# Altium footprint library QFN.PcbLib: 32 footprints (part 2 of 2)
Each footprint in its own frame and in the unit in brackets; x right, y up, seen from the top. Pads: shape width x height; smd on the part's side, far side on the other; paste and mask are expansions set on the pad; w line width, h text height; cw(c..) or ccw(c..) is an arc to the next point about the centre after c.
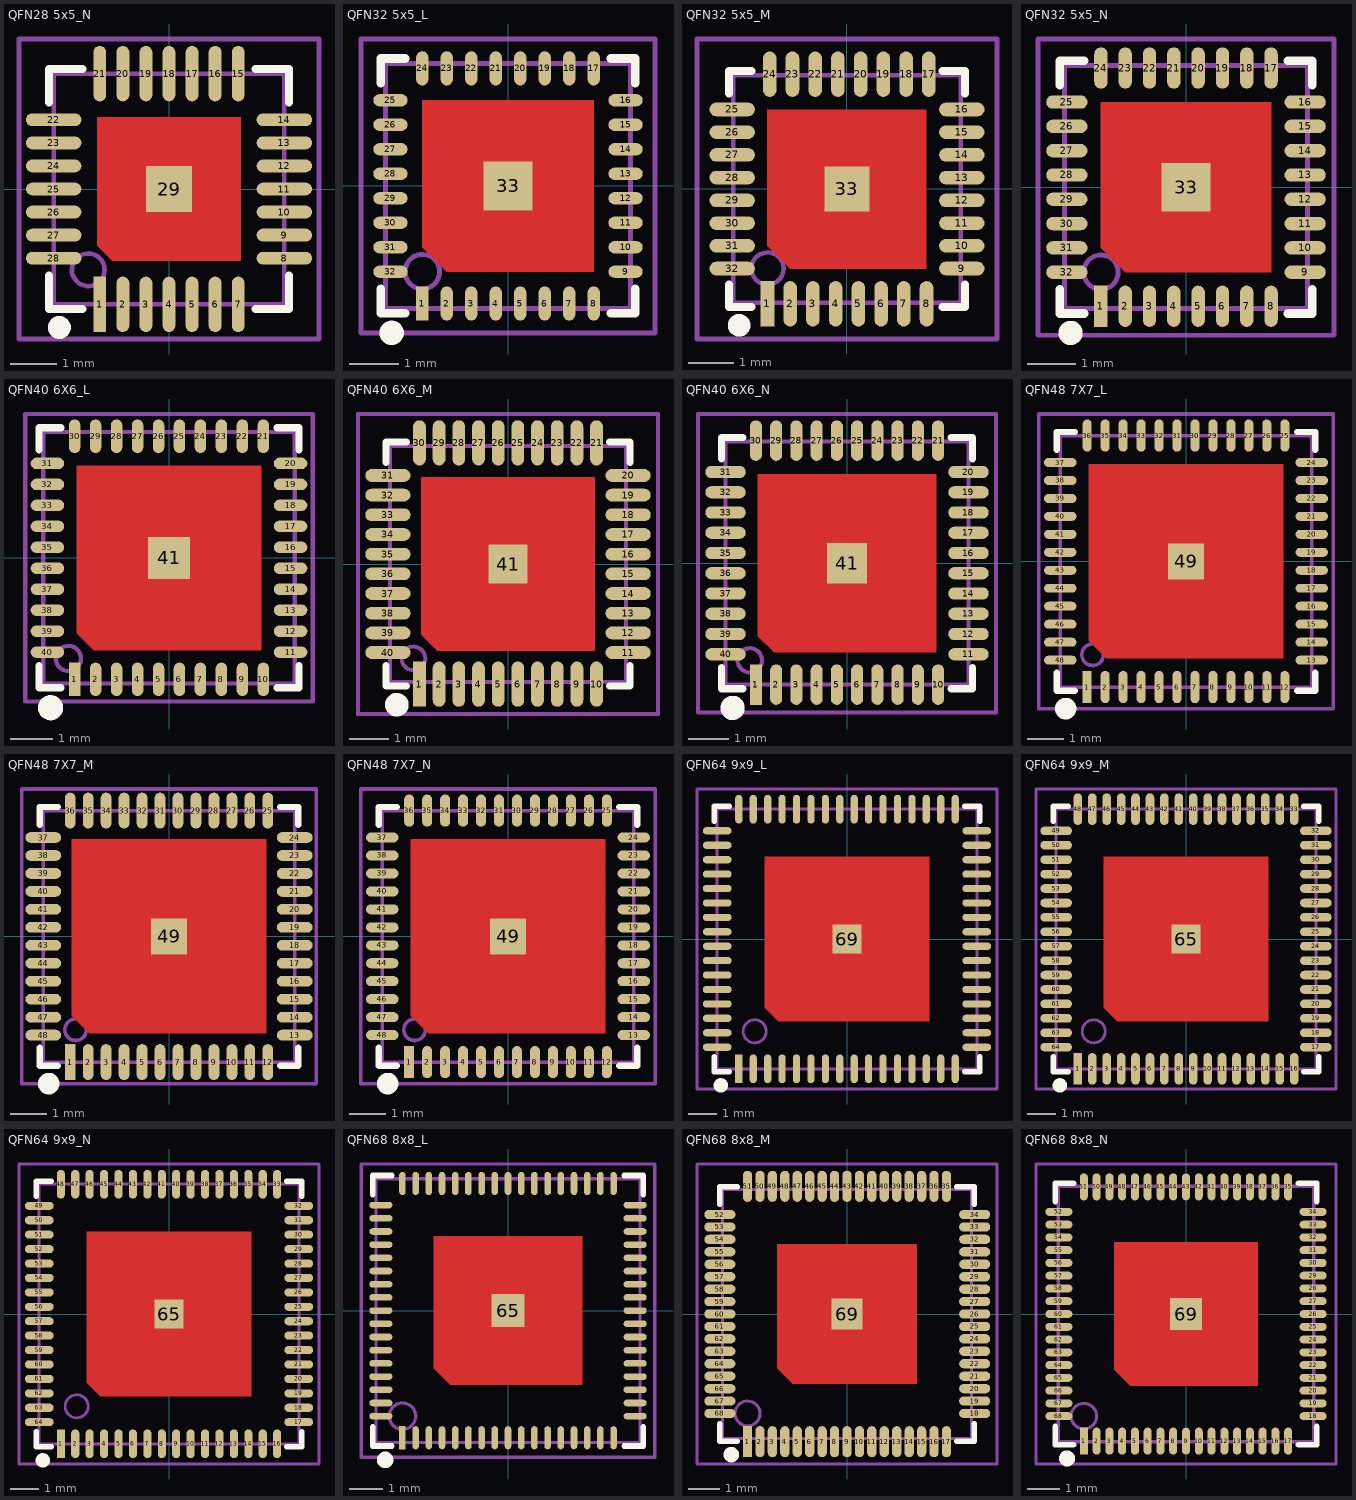
[diagram p1: the footprints below, top view; thin cyan lines are the x and y axes]

## QFN28 5x5_N [mm] "28脚，长x宽x高：5x5x0.8mm，脚距：0.5mm"
pads (29):
  rect 0.28x1.2 smd: 1(-1.5,-2.5)
  oval 0.28x1.2 smd: 2(-1,-2.5) 3(-0.5,-2.5) 4(0,-2.5) 5(0.5,-2.5) 6(1,-2.5) 7(1.5,-2.5) 15(1.5,2.5) 16(1,2.5) 17(0.5,2.5) 18(0,2.5) 19(-0.5,2.5) 20(-1,2.5) 21(-1.5,2.5)
  oval 1.2x0.28 smd: 8(2.5,-1.5) 9(2.5,-1) 10(2.5,-0.5) 11(2.5,0) 12(2.5,0.5) 13(2.5,1) 14(2.5,1.5) 22(-2.5,1.5) 23(-2.5,1) 24(-2.5,0.5) 25(-2.5,0) 26(-2.5,-0.5) 27(-2.5,-1) 28(-2.5,-1.5)
  rect 1x1 smd: 29(0,0)
Top Layer:
  region: -1.55,1.55 1.55,1.55 1.55,-1.55 -1.225,-1.55 -1.55,-1.225
Top Overlay:
  circle w0.25: c-2.375,-3 r0.125
  lines w0.178: -2.6,-1.875 -2.6,-2.6 -1.875,-2.6 ; -2.6,1.875 -2.6,2.6 -1.875,2.6 ; 1.875,-2.6 2.6,-2.6 2.6,-1.875 ; 1.875,2.6 2.6,2.6 2.6,1.875
Mechanical 13:
  circle w0.1: c-1.75,-1.75 r0.354
  lines w0.1: -2.501,-2.501 -2.501,2.501 2.5,2.501 2.5,-2.501 -2.501,-2.501
Mechanical 15:
  circle w0.05: c0,0 r0.35
  lines w0.05: -0.5,0 0.5,0 ; 0,-0.5 0,0.5
  lines w0.1: -3.25,-3.25 3.25,-3.25 3.25,3.25 -3.25,3.25 -3.25,-3.25
3D body "QFN28-5X5.STEP": height 0.75, standoff -0.05, extent -2.51,-2.51 2.51,2.51

## QFN32 5x5_L [mm] "32脚，长x宽x高：5x5x0.95mm，脚距：0.5mm"
pads (33):
  rect 0.25x0.7 smd: 1(-1.751,-2.4)
  oval 0.25x0.7 smd: 2(-1.25,-2.4) 3(-0.75,-2.4) 4(-0.25,-2.4) 5(0.25,-2.4) 6(0.75,-2.4) 7(1.25,-2.4) 8(1.75,-2.4) 17(1.75,2.4) 18(1.25,2.4) 19(0.75,2.4) 20(0.25,2.4) 21(-0.25,2.4) 22(-0.75,2.4) 23(-1.25,2.4) 24(-1.75,2.4)
  oval 0.7x0.25 smd: 9(2.4,-1.75) 10(2.4,-1.25) 11(2.4,-0.75) 12(2.4,-0.25) 13(2.4,0.25) 14(2.4,0.75) 15(2.4,1.25) 16(2.4,1.75) 25(-2.4,1.75) 26(-2.4,1.25) 27(-2.4,0.75) 28(-2.4,0.25) 29(-2.4,-0.25) 30(-2.4,-0.75) 31(-2.4,-1.25) 32(-2.4,-1.75)
  rect 1x1 smd: 33(0,0)
Top Layer:
  region: -1.75,1.75 1.75,1.75 1.75,-1.75 -1.25,-1.75 -1.75,-1.25
Top Overlay:
  circle w0.25: c-2.375,-3 r0.125
  lines w0.178: -2.6,-2.1 -2.6,-2.6 -2.1,-2.6 ; -2.6,2.1 -2.6,2.6 -2.1,2.6 ; 2.1,-2.6 2.6,-2.6 2.6,-2.1 ; 2.1,2.6 2.6,2.6 2.6,2.1
Mechanical 13:
  circle w0.1: c-1.75,-1.75 r0.354
  lines w0.1: -2.501,-2.501 2.501,-2.501 2.5,2.501 -2.501,2.501 -2.501,-2.501
Mechanical 15:
  circle w0.05: c0,0 r0.35
  lines w0.05: -0.5,0 0.5,0 ; 0,-0.5 0,0.5
  lines w0.1: -3,-3 -3,3 3,3 3,-3 -3,-3
3D body "QFN32 5x5.STEP": height 0.93, standoff 0, extent -2.501,-2.501 2.501,2.501

## QFN32 5x5_M [mm] "32脚，长x宽x高：5x5x0.95mm，脚距：0.5mm"
pads (33):
  rect 0.3x1 smd: 1(-1.751,-2.528)
  oval 0.3x1 smd: 2(-1.25,-2.528) 3(-0.75,-2.528) 4(-0.25,-2.528) 5(0.25,-2.528) 6(0.75,-2.528) 7(1.25,-2.528) 8(1.75,-2.528) 17(1.8,2.528) 18(1.3,2.528) 19(0.8,2.528) 20(0.3,2.528) 21(-0.2,2.528) 22(-0.7,2.528) 23(-1.2,2.528) 24(-1.7,2.528)
  oval 1x0.3 smd: 9(2.528,-1.75) 10(2.528,-1.25) 11(2.528,-0.75) 12(2.528,-0.25) 13(2.528,0.25) 14(2.528,0.75) 15(2.528,1.25) 16(2.528,1.75) 25(-2.528,1.75) 26(-2.528,1.25) 27(-2.528,0.75) 28(-2.528,0.25) 29(-2.528,-0.25) 30(-2.528,-0.75) 31(-2.528,-1.25) 32(-2.528,-1.75)
  rect 1x1 smd: 33(0,0)
Top Layer:
  region: -1.75,1.75 1.75,1.75 1.75,-1.75 -1.25,-1.75 -1.75,-1.25
Top Overlay:
  circle w0.25: c-2.375,-3 r0.125
  lines w0.178: -2.6,-2.1 -2.6,-2.6 -2.1,-2.6 ; -2.6,2.1 -2.6,2.6 -2.1,2.6 ; 2.1,-2.6 2.6,-2.6 2.6,-2.1 ; 2.1,2.6 2.6,2.6 2.6,2.1
Mechanical 13:
  circle w0.1: c-1.75,-1.75 r0.354
  lines w0.1: 2.501,-2.501 -2.501,-2.501 -2.501,2.501 2.5,2.501 2.5,-2.501 ; 2.5,-2.501 2.501,-2.501
Mechanical 15:
  circle w0.05: c0,0 r0.35
  lines w0.05: -0.5,0 0.5,0 ; 0,-0.5 0,0.5
  lines w0.1: -3.302,-3.302 3.302,-3.302 3.302,3.302 -3.302,3.302 -3.302,-3.302
3D body "QFN32 5x5.STEP": height 0.93, standoff 0, extent -2.501,-2.501 2.501,2.501

## QFN32 5x5_N [mm] "32脚，长x宽x高：5x5x0.95mm，脚距：0.5mm"
pads (33):
  rect 0.275x0.85 smd: 1(-1.751,-2.451)
  oval 0.275x0.85 smd: 2(-1.25,-2.451) 3(-0.75,-2.451) 4(-0.25,-2.451) 5(0.25,-2.451) 6(0.75,-2.451) 7(1.25,-2.451) 8(1.75,-2.451) 17(1.75,2.451) 18(1.25,2.451) 19(0.75,2.451) 20(0.25,2.451) 21(-0.25,2.451) 22(-0.75,2.451) 23(-1.25,2.451) 24(-1.75,2.451)
  oval 0.85x0.275 smd: 9(2.451,-1.75) 10(2.451,-1.25) 11(2.451,-0.75) 12(2.451,-0.25) 13(2.451,0.25) 14(2.451,0.75) 15(2.451,1.25) 16(2.451,1.75) 25(-2.451,1.75) 26(-2.451,1.25) 27(-2.451,0.75) 28(-2.451,0.25) 29(-2.451,-0.25) 30(-2.451,-0.75) 31(-2.451,-1.25) 32(-2.451,-1.75)
  rect 1x1 smd: 33(0,0)
Top Layer:
  region: -1.75,1.75 1.75,1.75 1.75,-1.75 -1.25,-1.75 -1.75,-1.25
Top Overlay:
  circle w0.25: c-2.375,-3 r0.125
  lines w0.178: -2.6,-2.1 -2.6,-2.6 -2.1,-2.6 ; -2.6,2.1 -2.6,2.6 -2.1,2.6 ; 2.1,-2.6 2.6,-2.6 2.6,-2.1 ; 2.1,2.6 2.6,2.6 2.6,2.1
Mechanical 13:
  circle w0.1: c-1.75,-1.75 r0.354
  lines w0.1: 2.5,-2.501 2.5,2.501 -2.501,2.501 -2.501,-2.501 2.501,-2.501 ; 2.5,-2.501 2.501,-2.501
Mechanical 15:
  circle w0.05: c0,0 r0.35
  lines w0.05: -0.5,0 0.5,0 ; 0,-0.5 0,0.5
  lines w0.1: -3.048,-3.048 -3.048,3.048 3.048,3.048 3.048,-3.048 -3.048,-3.048
3D body "QFN32 5x5.STEP": height 0.93, standoff 0, extent -2.501,-2.501 2.501,2.501

## QFN40 6X6_L [mm] "40脚，长x宽x高：6x6x1mm，脚距：0.5mm"
pads (41):
  rect 0.275x0.8 smd mask+0.051: 1(-2.25,-2.898)
  oval 0.275x0.8 smd mask+0.051: 2(-1.75,-2.898) 3(-1.25,-2.898) 4(-0.75,-2.898) 5(-0.25,-2.898) 6(0.25,-2.898) 7(0.75,-2.898) 8(1.25,-2.898) 9(1.75,-2.898) 10(2.25,-2.898) 21(2.25,2.898) 22(1.75,2.898) 23(1.25,2.898) 24(0.75,2.898) 25(0.25,2.898) 26(-0.25,2.898) 27(-0.75,2.898) 28(-1.25,2.898) 29(-1.75,2.898) 30(-2.25,2.898)
  oval 0.8x0.275 smd mask+0.051: 11(2.898,-2.25) 12(2.898,-1.75) 13(2.898,-1.25) 14(2.898,-0.75) 15(2.898,-0.25) 16(2.898,0.25) 17(2.898,0.75) 18(2.898,1.25) 19(2.898,1.75) 20(2.898,2.25) 31(-2.898,2.25) 32(-2.898,1.75) 33(-2.898,1.25) 34(-2.898,0.75) 35(-2.898,0.25) 36(-2.898,-0.25) 37(-2.898,-0.75) 38(-2.898,-1.25) 39(-2.898,-1.75) 40(-2.898,-2.25)
  rect 1x1 smd mask+0.051: 41(0,0)
Top Layer:
  region: -2.2,2.2 2.2,2.2 2.2,-2.2 -1.8,-2.2 -2.2,-1.8
Top Overlay:
  circle w0.3: c-2.825,-3.575 r0.15
  lines w0.178: -3.1,-2.575 -3.1,-3.1 -2.575,-3.1 ; -3.1,2.575 -3.1,3.1 -2.575,3.1 ; 2.575,-3.1 3.1,-3.1 3.1,-2.575 ; 2.575,3.1 3.1,3.1 3.1,2.575
Mechanical 13:
  circle w0.1: c-2.4,-2.4 r0.3
  lines w0.1: -3,-3 3,-3 3,3 -3,3 -3,-3
Mechanical 15:
  circle w0.05: c0,0 r0.35
  lines w0.05: -0.5,0 0.5,0 ; 0,-0.5 0,0.5
  lines w0.1: -3.429,-3.429 3.429,-3.429 3.429,3.429 -3.429,3.429 -3.429,-3.429
3D body "QFN40-6X6.STEP": height 0.95, standoff -0.02, extent -3.01,-3.01 3.01,3.01

## QFN40 6X6_M [mm] "40脚，长x宽x高：6x6x1mm，脚距：0.5mm"
pads (41):
  rect 0.325x1.15 smd mask+0.051: 1(-2.25,-3.051)
  oval 0.325x1.15 smd mask+0.051: 2(-1.75,-3.051) 3(-1.25,-3.051) 4(-0.75,-3.051) 5(-0.25,-3.051) 6(0.25,-3.051) 7(0.75,-3.051) 8(1.25,-3.051) 9(1.75,-3.051) 10(2.25,-3.051) 21(2.25,3.076) 22(1.75,3.076) 23(1.25,3.076) 24(0.75,3.076) 25(0.25,3.076) 26(-0.25,3.076) 27(-0.75,3.076) 28(-1.25,3.076) 29(-1.75,3.076) 30(-2.25,3.076)
  oval 1.15x0.325 smd mask+0.051: 11(3.051,-2.25) 12(3.051,-1.75) 13(3.051,-1.25) 14(3.051,-0.75) 15(3.051,-0.25) 16(3.051,0.25) 17(3.051,0.75) 18(3.051,1.25) 19(3.051,1.75) 20(3.051,2.25) 31(-3.051,2.25) 32(-3.051,1.75) 33(-3.051,1.25) 34(-3.051,0.75) 35(-3.051,0.25) 36(-3.051,-0.25) 37(-3.051,-0.75) 38(-3.051,-1.25) 39(-3.051,-1.75) 40(-3.051,-2.25)
  rect 1x1 smd mask+0.051: 41(0,0)
Top Layer:
  region: -2.2,2.2 2.2,2.2 2.2,-2.2 -1.8,-2.2 -2.2,-1.8
Top Overlay:
  circle w0.3: c-2.825,-3.575 r0.15
  lines w0.178: -3.1,-2.575 -3.1,-3.1 -2.575,-3.1 ; -3.1,2.575 -3.1,3.1 -2.575,3.1 ; 2.575,-3.1 3.1,-3.1 3.1,-2.575 ; 2.575,3.1 3.1,3.1 3.1,2.575
Mechanical 13:
  circle w0.1: c-2.4,-2.4 r0.3
  lines w0.1: -3,-3 -3,3 3,3 3,-3 -3,-3
Mechanical 15:
  circle w0.05: c0,0 r0.35
  lines w0.05: -0.5,0 0.5,0 ; 0,-0.5 0,0.5
  lines w0.1: -3.81,-3.81 3.81,-3.81 3.81,3.81 -3.81,3.81 -3.81,-3.81
3D body "QFN40-6X6.STEP": height 0.9, standoff -0.07, extent -3.01,-3.01 3.01,3.01

## QFN40 6X6_N [mm] "40脚，长x宽x高：6x6x1mm，脚距：0.5mm"
pads (41):
  rect 0.3x1 smd mask+0.051: 1(-2.25,-3)
  oval 0.3x1 smd mask+0.051: 2(-1.75,-3) 3(-1.25,-3) 4(-0.75,-3) 5(-0.25,-3) 6(0.25,-3) 7(0.75,-3) 8(1.25,-3) 9(1.75,-3) 10(2.25,-3) 21(2.25,3.025) 22(1.75,3.025) 23(1.25,3.025) 24(0.75,3.025) 25(0.25,3.025) 26(-0.25,3.025) 27(-0.75,3.025) 28(-1.25,3.025) 29(-1.75,3.025) 30(-2.25,3.025)
  oval 1x0.3 smd mask+0.051: 11(3,-2.25) 12(3,-1.75) 13(3,-1.25) 14(3,-0.75) 15(3,-0.25) 16(3,0.25) 17(3,0.75) 18(3,1.25) 19(3,1.75) 20(3,2.25) 31(-3,2.25) 32(-3,1.75) 33(-3,1.25) 34(-3,0.75) 35(-3,0.25) 36(-3,-0.25) 37(-3,-0.75) 38(-3,-1.25) 39(-3,-1.75) 40(-3,-2.25)
  rect 1x1 smd mask+0.051: 41(0,0)
Top Layer:
  region: -2.2,2.2 2.2,2.2 2.2,-2.2 -1.8,-2.2 -2.2,-1.8
Top Overlay:
  circle w0.3: c-2.825,-3.575 r0.15
  lines w0.178: -3.1,-2.575 -3.1,-3.1 -2.575,-3.1 ; -3.1,2.575 -3.1,3.1 -2.575,3.1 ; 2.575,-3.1 3.1,-3.1 3.1,-2.575 ; 2.575,3.1 3.1,3.1 3.1,2.575
Mechanical 13:
  circle w0.1: c-2.4,-2.4 r0.3
  lines w0.1: -3,-3 3,-3 3,3 -3,3 -3,-3
Mechanical 15:
  circle w0.05: c0,0 r0.35
  lines w0.05: -0.5,0 0.5,0 ; 0,-0.5 0,0.5
  lines w0.1: -3.683,-3.683 3.683,-3.683 3.683,3.683 -3.683,3.683 -3.683,-3.683
3D body "QFN40-6X6.STEP": height 0.95, standoff -0.02, extent -3.01,-3.01 3.01,3.01

## QFN48 7X7_L [mm] "48脚，长x宽x高：7x7x1mm，脚距：0.5mm"
pads (49):
  rect 0.25x0.9 smd: 1(-2.75,-3.5)
  oval 0.25x0.9 smd: 2(-2.25,-3.5) 3(-1.75,-3.5) 4(-1.25,-3.5) 5(-0.75,-3.5) 6(-0.25,-3.5) 7(0.25,-3.5) 8(0.75,-3.5) 9(1.25,-3.5) 10(1.75,-3.5) 11(2.25,-3.5) 12(2.75,-3.5) 25(2.75,3.5) 26(2.25,3.5) 27(1.75,3.5) 28(1.25,3.5) 29(0.75,3.5) 30(0.25,3.5) 31(-0.25,3.5) 32(-0.75,3.5) 33(-1.25,3.5) 34(-1.75,3.5) 35(-2.25,3.5) 36(-2.75,3.5)
  oval 0.9x0.25 smd: 13(3.5,-2.75) 14(3.5,-2.25) 15(3.5,-1.75) 16(3.5,-1.25) 17(3.5,-0.75) 18(3.5,-0.25) 19(3.5,0.25) 20(3.5,0.75) 21(3.5,1.25) 22(3.5,1.75) 23(3.5,2.25) 24(3.5,2.75) 37(-3.5,2.75) 38(-3.5,2.25) 39(-3.5,1.75) 40(-3.5,1.25) 41(-3.5,0.75) 42(-3.5,0.25) 43(-3.5,-0.25) 44(-3.5,-0.75) 45(-3.5,-1.25) 46(-3.5,-1.75) 47(-3.5,-2.25) 48(-3.5,-2.75)
  rect 1x1 smd mask+0.051: 49(0,0)
Top Layer:
  region: -2.7,2.7 2.7,2.7 2.7,-2.7 -2.214,-2.7 -2.7,-2.214
Top Overlay:
  circle w0.3: c-3.35,-4.1 r0.15
  lines w0.178: -3.6,-3.1 -3.6,-3.6 -3.1,-3.6 ; -3.6,3.1 -3.6,3.6 -3.1,3.6 ; 3.1,-3.6 3.6,-3.6 3.6,-3.1 ; 3.1,3.6 3.6,3.6 3.6,3.1
Mechanical 13:
  circle w0.1: c-2.6,-2.6 r0.3
  lines w0.1: -3.5,-3.5 3.5,-3.5 3.5,3.5 -3.5,3.5 -3.5,-3.5
Mechanical 15:
  circle w0.05: c0,0 r0.35
  lines w0.05: -0.5,0 0.5,0 ; 0,-0.5 0,0.5
  lines w0.1: -4.1,-4.1 -4.1,4.1 4.1,4.1 4.1,-4.1 -4.1,-4.1
3D body "QFN48-7X7.STEP": height 0.95, standoff -0.05, extent -3.51,-3.51 3.51,3.51

## QFN48 7X7_M [mm] "48脚，长x宽x高：7x7x1mm，脚距：0.5mm"
pads (49):
  rect 0.3x1 smd: 1(-2.75,-3.5)
  oval 0.3x1 smd: 2(-2.25,-3.5) 3(-1.75,-3.5) 4(-1.25,-3.5) 5(-0.75,-3.5) 6(-0.25,-3.5) 7(0.25,-3.5) 8(0.75,-3.5) 9(1.25,-3.5) 10(1.75,-3.5) 11(2.25,-3.5) 12(2.75,-3.5) 25(2.75,3.5) 26(2.25,3.5) 27(1.75,3.5) 28(1.25,3.5) 29(0.75,3.5) 30(0.25,3.5) 31(-0.25,3.5) 32(-0.75,3.5) 33(-1.25,3.5) 34(-1.75,3.5) 35(-2.25,3.5) 36(-2.75,3.5)
  oval 1x0.3 smd: 13(3.5,-2.75) 14(3.5,-2.25) 15(3.5,-1.75) 16(3.5,-1.25) 17(3.5,-0.75) 18(3.5,-0.25) 19(3.5,0.25) 20(3.5,0.75) 21(3.5,1.25) 22(3.5,1.75) 23(3.5,2.25) 24(3.5,2.75) 37(-3.5,2.75) 38(-3.5,2.25) 39(-3.5,1.75) 40(-3.5,1.25) 41(-3.5,0.75) 42(-3.5,0.25) 43(-3.5,-0.25) 44(-3.5,-0.75) 45(-3.5,-1.25) 46(-3.5,-1.75) 47(-3.5,-2.25) 48(-3.5,-2.75)
  rect 1x1 smd mask+0.051: 49(0,0)
Top Layer:
  region: -2.7,2.7 2.7,2.7 2.7,-2.7 -2.214,-2.7 -2.7,-2.214
Top Overlay:
  circle w0.3: c-3.35,-4.1 r0.15
  lines w0.178: -3.6,-3.1 -3.6,-3.6 -3.1,-3.6 ; -3.6,3.1 -3.6,3.6 -3.1,3.6 ; 3.1,-3.6 3.6,-3.6 3.6,-3.1 ; 3.1,3.6 3.6,3.6 3.6,3.1
Mechanical 13:
  circle w0.1: c-2.6,-2.6 r0.3
  lines w0.1: -3.5,-3.5 3.5,-3.5 3.5,3.5 -3.5,3.5 -3.5,-3.5
Mechanical 15:
  circle w0.05: c0,0 r0.35
  lines w0.05: -0.5,0 0.5,0 ; 0,-0.5 0,0.5
  lines w0.1: -4.1,-4.1 -4.1,4.1 4.1,4.1 4.1,-4.1 -4.1,-4.1
3D body "QFN48-7X7.STEP": height 0.95, standoff -0.05, extent -3.51,-3.51 3.51,3.51

## QFN48 7X7_N [mm] "48脚，长x宽x高：7x7x1mm，脚距：0.5mm"
pads (49):
  rect 0.28x0.9 smd: 1(-2.75,-3.5)
  oval 0.28x0.9 smd: 2(-2.25,-3.5) 3(-1.75,-3.5) 4(-1.25,-3.5) 5(-0.75,-3.5) 6(-0.25,-3.5) 7(0.25,-3.5) 8(0.75,-3.5) 9(1.25,-3.5) 10(1.75,-3.5) 11(2.25,-3.5) 12(2.75,-3.5) 25(2.75,3.5) 26(2.25,3.5) 27(1.75,3.5) 28(1.25,3.5) 29(0.75,3.5) 30(0.25,3.5) 31(-0.25,3.5) 32(-0.75,3.5) 33(-1.25,3.5) 34(-1.75,3.5) 35(-2.25,3.5) 36(-2.75,3.5)
  oval 0.9x0.28 smd: 13(3.5,-2.75) 14(3.5,-2.25) 15(3.5,-1.75) 16(3.5,-1.25) 17(3.5,-0.75) 18(3.5,-0.25) 19(3.5,0.25) 20(3.5,0.75) 21(3.5,1.25) 22(3.5,1.75) 23(3.5,2.25) 24(3.5,2.75) 37(-3.5,2.75) 38(-3.5,2.25) 39(-3.5,1.75) 40(-3.5,1.25) 41(-3.5,0.75) 42(-3.5,0.25) 43(-3.5,-0.25) 44(-3.5,-0.75) 45(-3.5,-1.25) 46(-3.5,-1.75) 47(-3.5,-2.25) 48(-3.5,-2.75)
  rect 1x1 smd mask+0.051: 49(0,0)
Top Layer:
  region: -2.7,2.7 2.7,2.7 2.7,-2.7 -2.214,-2.7 -2.7,-2.214
Top Overlay:
  circle w0.3: c-3.35,-4.1 r0.15
  lines w0.178: -3.6,-3.1 -3.6,-3.6 -3.1,-3.6 ; -3.6,3.1 -3.6,3.6 -3.1,3.6 ; 3.1,-3.6 3.6,-3.6 3.6,-3.1 ; 3.1,3.6 3.6,3.6 3.6,3.1
Mechanical 13:
  circle w0.1: c-2.6,-2.6 r0.3
  lines w0.1: -3.5,-3.5 3.5,-3.5 3.5,3.5 -3.5,3.5 -3.5,-3.5
Mechanical 15:
  circle w0.05: c0,0 r0.35
  lines w0.05: -0.5,0 0.5,0 ; 0,-0.5 0,0.5
  lines w0.1: -4.1,-4.1 -4.1,4.1 4.1,4.1 4.1,-4.1 -4.1,-4.1
3D body "QFN48-7X7.STEP": height 0.95, standoff -0.05, extent -3.51,-3.51 3.51,3.51

## QFN64 9x9_L [mm] "64脚，长x宽x高：9x9x1mm，脚距：0.5mm"
pads (65):
  rect 0.25x1 smd: 1(-3.75,-4.5)
  oval 0.25x1 smd: 2(-3.25,-4.5) 3(-2.75,-4.5) 4(-2.25,-4.5) 5(-1.75,-4.5) 6(-1.25,-4.5) 7(-0.75,-4.5) 8(-0.25,-4.5) 9(0.25,-4.5) 10(0.75,-4.5) 11(1.25,-4.5) 12(1.75,-4.5) 13(2.25,-4.5) 14(2.75,-4.5) 15(3.25,-4.5) 16(3.75,-4.5) 33(3.75,4.5) 34(3.25,4.5) 35(2.75,4.5) 36(2.25,4.5) 37(1.75,4.5) 38(1.25,4.5) 39(0.75,4.5) 40(0.25,4.5) 41(-0.25,4.5) 42(-0.75,4.5) 43(-1.25,4.5) 44(-1.75,4.5) 45(-2.25,4.5) 46(-2.75,4.5) 47(-3.25,4.5) 48(-3.75,4.5)
  oval 1x0.25 smd: 17(4.5,-3.75) 18(4.5,-3.25) 19(4.5,-2.75) 20(4.5,-2.25) 21(4.5,-1.75) 22(4.5,-1.25) 23(4.5,-0.75) 24(4.5,-0.25) 25(4.5,0.25) 26(4.5,0.75) 27(4.5,1.25) 28(4.5,1.75) 29(4.5,2.25) 30(4.5,2.75) 31(4.5,3.25) 32(4.5,3.75) 49(-4.5,3.75) 50(-4.5,3.25) 51(-4.5,2.75) 52(-4.5,2.25) 53(-4.5,1.75) 54(-4.5,1.25) 55(-4.5,0.75) 56(-4.5,0.25) 57(-4.5,-0.25) 58(-4.5,-0.75) 59(-4.5,-1.25) 60(-4.5,-1.75) 61(-4.5,-2.25) 62(-4.5,-2.75) 63(-4.5,-3.25) 64(-4.5,-3.75)
  rect 1x1 smd: 69(0,0)
Top Layer:
  region: -2.85,2.85 2.85,2.85 2.85,-2.85 -2.375,-2.85 -2.85,-2.375
Top Overlay:
  circle w0.25: c-4.375,-5.075 r0.125
  lines w0.178: -4.6,-4.075 -4.6,-4.6 -4.075,-4.6 ; -4.6,4.075 -4.6,4.6 -4.075,4.6 ; 4.075,-4.6 4.6,-4.6 4.6,-4.075 ; 4.075,4.6 4.6,4.6 4.6,4.075
Mechanical 13:
  circle w0.1: c-3.2,-3.2 r0.4
  lines w0.1: -4.5,-4.5 4.5,-4.5 4.5,4.5 -4.5,4.5 -4.5,-4.5
Mechanical 15:
  circle w0.05: c0,0 r0.35
  lines w0.05: -0.5,0 0.5,0 ; 0,-0.5 0,0.5
  lines w0.1: -5.2,-5.2 5.2,-5.2 5.2,5.2 -5.2,5.2 -5.2,-5.2
3D body "QFN64-9X9.STEP": height 0.95, standoff -0.05, extent -4.51,-4.51 4.51,4.51

## QFN64 9x9_M [mm] "64脚，长x宽x高：9x9x1mm，脚距：0.5mm"
pads (65):
  rect 0.3x1.1 smd: 1(-3.75,-4.5)
  oval 0.3x1.1 smd: 2(-3.25,-4.5) 3(-2.75,-4.5) 4(-2.25,-4.5) 5(-1.75,-4.5) 6(-1.25,-4.5) 7(-0.75,-4.5) 8(-0.25,-4.5) 9(0.25,-4.5) 10(0.75,-4.5) 11(1.25,-4.5) 12(1.75,-4.5) 13(2.25,-4.5) 14(2.75,-4.5) 15(3.25,-4.5) 16(3.75,-4.5) 33(3.75,4.5) 34(3.25,4.5) 35(2.75,4.5) 36(2.25,4.5) 37(1.75,4.5) 38(1.25,4.5) 39(0.75,4.5) 40(0.25,4.5) 41(-0.25,4.5) 42(-0.75,4.5) 43(-1.25,4.5) 44(-1.75,4.5) 45(-2.25,4.5) 46(-2.75,4.5) 47(-3.25,4.5) 48(-3.75,4.5)
  oval 1.1x0.3 smd: 17(4.5,-3.75) 18(4.5,-3.25) 19(4.5,-2.75) 20(4.5,-2.25) 21(4.5,-1.75) 22(4.5,-1.25) 23(4.5,-0.75) 24(4.5,-0.25) 25(4.5,0.25) 26(4.5,0.75) 27(4.5,1.25) 28(4.5,1.75) 29(4.5,2.25) 30(4.5,2.75) 31(4.5,3.25) 32(4.5,3.75) 49(-4.5,3.75) 50(-4.5,3.25) 51(-4.5,2.75) 52(-4.5,2.25) 53(-4.5,1.75) 54(-4.5,1.25) 55(-4.5,0.75) 56(-4.5,0.25) 57(-4.5,-0.25) 58(-4.5,-0.75) 59(-4.5,-1.25) 60(-4.5,-1.75) 61(-4.5,-2.25) 62(-4.5,-2.75) 63(-4.5,-3.25) 64(-4.5,-3.75)
  rect 1x1 smd: 65(0,0)
Top Layer:
  region: -2.85,2.85 2.85,2.85 2.85,-2.85 -2.375,-2.85 -2.85,-2.375
Top Overlay:
  circle w0.25: c-4.375,-5.075 r0.125
  lines w0.178: -4.6,-4.075 -4.6,-4.6 -4.075,-4.6 ; -4.6,4.075 -4.6,4.6 -4.075,4.6 ; 4.075,-4.6 4.6,-4.6 4.6,-4.075 ; 4.075,4.6 4.6,4.6 4.6,4.075
Mechanical 13:
  circle w0.1: c-3.2,-3.2 r0.4
  lines w0.1: -4.5,-4.5 -4.5,4.5 4.5,4.5 4.5,-4.5 -4.5,-4.5
Mechanical 15:
  circle w0.05: c0,0 r0.35
  lines w0.05: -0.5,0 0.5,0 ; 0,-0.5 0,0.5
  lines w0.1: -5.2,-5.2 -5.2,5.2 5.2,5.2 5.2,-5.2 -5.2,-5.2
3D body "QFN64-9X9.STEP": height 0.95, standoff -0.05, extent -4.51,-4.51 4.51,4.51

## QFN64 9x9_N [mm] "64脚，长x宽x高：9x9x1mm，脚距：0.5mm"
pads (65):
  rect 0.28x1 smd: 1(-3.75,-4.5)
  oval 0.28x1 smd: 2(-3.25,-4.5) 3(-2.75,-4.5) 4(-2.25,-4.5) 5(-1.75,-4.5) 6(-1.25,-4.5) 7(-0.75,-4.5) 8(-0.25,-4.5) 9(0.25,-4.5) 10(0.75,-4.5) 11(1.25,-4.5) 12(1.75,-4.5) 13(2.25,-4.5) 14(2.75,-4.5) 15(3.25,-4.5) 16(3.75,-4.5) 33(3.75,4.5) 34(3.25,4.5) 35(2.75,4.5) 36(2.25,4.5) 37(1.75,4.5) 38(1.25,4.5) 39(0.75,4.5) 40(0.25,4.5) 41(-0.25,4.5) 42(-0.75,4.5) 43(-1.25,4.5) 44(-1.75,4.5) 45(-2.25,4.5) 46(-2.75,4.5) 47(-3.25,4.5) 48(-3.75,4.5)
  oval 1x0.28 smd: 17(4.5,-3.75) 18(4.5,-3.25) 19(4.5,-2.75) 20(4.5,-2.25) 21(4.5,-1.75) 22(4.5,-1.25) 23(4.5,-0.75) 24(4.5,-0.25) 25(4.5,0.25) 26(4.5,0.75) 27(4.5,1.25) 28(4.5,1.75) 29(4.5,2.25) 30(4.5,2.75) 31(4.5,3.25) 32(4.5,3.75) 49(-4.5,3.75) 50(-4.5,3.25) 51(-4.5,2.75) 52(-4.5,2.25) 53(-4.5,1.75) 54(-4.5,1.25) 55(-4.5,0.75) 56(-4.5,0.25) 57(-4.5,-0.25) 58(-4.5,-0.75) 59(-4.5,-1.25) 60(-4.5,-1.75) 61(-4.5,-2.25) 62(-4.5,-2.75) 63(-4.5,-3.25) 64(-4.5,-3.75)
  rect 1x1 smd: 65(0,0)
Top Layer:
  region: -2.85,2.85 2.85,2.85 2.85,-2.85 -2.375,-2.85 -2.85,-2.375
Top Overlay:
  circle w0.25: c-4.375,-5.075 r0.125
  lines w0.178: -4.6,-4.075 -4.6,-4.6 -4.075,-4.6 ; -4.6,4.075 -4.6,4.6 -4.075,4.6 ; 4.075,-4.6 4.6,-4.6 4.6,-4.075 ; 4.075,4.6 4.6,4.6 4.6,4.075
Mechanical 13:
  circle w0.1: c-3.2,-3.2 r0.4
  lines w0.1: -4.5,-4.5 -4.5,4.5 4.5,4.5 4.5,-4.5 -4.5,-4.5
Mechanical 15:
  circle w0.05: c0,0 r0.35
  lines w0.05: -0.5,0 0.5,0 ; 0,-0.5 0,0.5
  lines w0.1: -5.2,-5.2 -5.2,5.2 5.2,5.2 5.2,-5.2 -5.2,-5.2
3D body "QFN64-9X9.STEP": height 0.95, standoff -0.05, extent -4.51,-4.51 4.51,4.51

## QFN68 8x8_L [mm] "68脚，长x宽x高：8x8x0.85mm，脚距：0.4mm"
pads (69):
  rect 0.2x0.7 smd: 1(-3.2,-3.854)
  oval 0.2x0.7 smd: 2(-2.8,-3.854) 3(-2.4,-3.854) 4(-2,-3.854) 5(-1.6,-3.854) 6(-1.2,-3.854) 7(-0.8,-3.854) 8(-0.4,-3.854) 9(0,-3.854) 10(0.4,-3.854) 11(0.8,-3.854) 12(1.2,-3.854) 13(1.6,-3.854) 14(2,-3.854) 15(2.4,-3.854) 16(2.8,-3.854) 17(3.2,-3.854) 35(3.2,3.854) 36(2.8,3.854) 37(2.4,3.854) 38(2,3.854) 39(1.6,3.854) 40(1.2,3.854) 41(0.8,3.854) 42(0.4,3.854) 43(0,3.854) 44(-0.4,3.854) 45(-0.8,3.854) 46(-1.2,3.854) 47(-1.6,3.854) 48(-2,3.854) 49(-2.4,3.854) 50(-2.8,3.854) 51(-3.2,3.854)
  oval 0.7x0.2 smd: 18(3.854,-3.2) 19(3.854,-2.8) 20(3.854,-2.4) 21(3.854,-2) 22(3.854,-1.6) 23(3.854,-1.2) 24(3.854,-0.8) 25(3.854,-0.4) 26(3.854,0) 27(3.854,0.4) 28(3.854,0.8) 29(3.854,1.2) 30(3.854,1.6) 31(3.854,2) 32(3.854,2.4) 33(3.854,2.8) 34(3.854,3.2) 52(-3.854,3.2) 53(-3.854,2.8) 54(-3.854,2.4) 55(-3.854,2) 56(-3.854,1.6) 57(-3.854,1.2) 58(-3.854,0.8) 59(-3.854,0.4) 60(-3.854,0) 61(-3.854,-0.4) 62(-3.854,-0.8) 63(-3.854,-1.2) 64(-3.854,-1.6) 65(-3.854,-2) 66(-3.854,-2.4) 67(-3.854,-2.8) 68(-3.854,-3.2)
  rect 1x1 smd: 65(0,0)
Top Layer:
  region: -2.25,2.25 2.25,2.25 2.25,-2.25 -1.75,-2.25 -2.25,-1.75
Top Overlay:
  circle w0.25: c-3.725,-4.525 r0.125
  lines w0.178: -4.1,-3.525 -4.1,-4.1 -3.525,-4.1 ; -4.1,3.525 -4.1,4.1 -3.525,4.1 ; 3.525,-4.1 4.1,-4.1 4.1,-3.525 ; 3.525,4.1 4.1,4.1 4.1,3.525
Mechanical 13:
  circle w0.1: c-3.2,-3.2 r0.4
  lines w0.1: -4,-4 -4,4.001 4,4.001 4,-4 -4,-4
Mechanical 15:
  circle w0.05: c0,0 r0.35
  lines w0.05: -0.5,0 0.5,0 ; 0,-0.5 0,0.5
  lines w0.1: -4.445,-4.445 -4.445,4.445 4.445,4.445 4.445,-4.445 -4.445,-4.445
3D body "QFN68 8x8.STEP": height 0.88, standoff 0, extent -4.001,-4.001 4.001,4.001

## QFN68 8x8_M [mm] "68脚，长x宽x高：8x8x0.85mm，脚距：0.4mm"
pads (69):
  rect 0.3x1 smd: 1(-3.2,-4.108)
  oval 0.3x1 smd: 2(-2.8,-4.108) 3(-2.4,-4.108) 4(-2,-4.108) 5(-1.6,-4.108) 6(-1.2,-4.108) 7(-0.8,-4.108) 8(-0.4,-4.108) 9(0,-4.108) 10(0.4,-4.108) 11(0.8,-4.108) 12(1.2,-4.108) 13(1.6,-4.108) 14(2,-4.108) 15(2.4,-4.108) 16(2.8,-4.108) 17(3.2,-4.108) 35(3.2,4.108) 36(2.8,4.108) 37(2.4,4.108) 38(2,4.108) 39(1.6,4.108) 40(1.2,4.108) 41(0.8,4.108) 42(0.4,4.108) 43(0,4.108) 44(-0.4,4.108) 45(-0.8,4.108) 46(-1.2,4.108) 47(-1.6,4.108) 48(-2,4.108) 49(-2.4,4.108) 50(-2.8,4.108) 51(-3.2,4.108)
  oval 1x0.3 smd: 18(4.108,-3.2) 19(4.108,-2.8) 20(4.108,-2.4) 21(4.108,-2) 22(4.108,-1.6) 23(4.108,-1.2) 24(4.108,-0.8) 25(4.108,-0.4) 26(4.108,0) 27(4.108,0.4) 28(4.108,0.8) 29(4.108,1.2) 30(4.108,1.6) 31(4.108,2) 32(4.108,2.4) 33(4.108,2.8) 34(4.108,3.2) 52(-4.089,3.2) 53(-4.089,2.8) 54(-4.089,2.4) 55(-4.089,2) 56(-4.089,1.6) 57(-4.089,1.2) 58(-4.089,0.8) 59(-4.089,0.4) 60(-4.089,0) 61(-4.089,-0.4) 62(-4.089,-0.8) 63(-4.089,-1.2) 64(-4.089,-1.6) 65(-4.089,-2) 66(-4.089,-2.4) 67(-4.089,-2.8) 68(-4.089,-3.2)
  rect 1x1 smd: 69(0,0)
Top Layer:
  region: -2.25,2.25 2.25,2.25 2.25,-2.25 -1.75,-2.25 -2.25,-1.75
Top Overlay:
  circle w0.25: c-3.725,-4.525 r0.125
  lines w0.178: -4.1,-3.525 -4.1,-4.1 -3.525,-4.1 ; -4.1,3.525 -4.1,4.1 -3.525,4.1 ; 3.525,-4.1 4.1,-4.1 4.1,-3.525 ; 3.525,4.1 4.1,4.1 4.1,3.525
Mechanical 13:
  circle w0.1: c-3.2,-3.2 r0.4
  lines w0.1: -4,-4 -4,4.001 4,4.001 4,-4 -4,-4
Mechanical 15:
  circle w0.05: c0,0 r0.35
  lines w0.05: -0.5,0 0.5,0 ; 0,-0.5 0,0.5
  lines w0.1: -4.826,-4.826 -4.826,4.826 4.826,4.826 4.826,-4.826 -4.826,-4.826
3D body "QFN68 8x8.STEP": height 0.88, standoff 0, extent -4.001,-4.001 4.001,4.001

## QFN68 8x8_N [mm] "68脚，长x宽x高：8x8x0.85mm，脚距：0.4mm"
pads (69):
  rect 0.25x0.85 smd: 1(-3.2,-3.981)
  oval 0.25x0.85 smd: 2(-2.8,-3.981) 3(-2.4,-3.981) 4(-2,-3.981) 5(-1.6,-3.981) 6(-1.2,-3.981) 7(-0.8,-3.981) 8(-0.4,-3.981) 9(0,-3.981) 10(0.4,-3.981) 11(0.8,-3.981) 12(1.2,-3.981) 13(1.6,-3.981) 14(2,-3.981) 15(2.4,-3.981) 16(2.8,-3.981) 17(3.2,-3.981) 35(3.2,3.981) 36(2.8,3.981) 37(2.4,3.981) 38(2,3.981) 39(1.6,3.981) 40(1.2,3.981) 41(0.8,3.981) 42(0.4,3.981) 43(0,3.981) 44(-0.4,3.981) 45(-0.8,3.981) 46(-1.2,3.981) 47(-1.6,3.981) 48(-2,3.981) 49(-2.4,3.981) 50(-2.8,3.981) 51(-3.2,3.981)
  oval 0.85x0.25 smd: 18(3.981,-3.2) 19(3.981,-2.8) 20(3.981,-2.4) 21(3.981,-2) 22(3.981,-1.6) 23(3.981,-1.2) 24(3.981,-0.8) 25(3.981,-0.4) 26(3.981,0) 27(3.981,0.4) 28(3.981,0.8) 29(3.981,1.2) 30(3.981,1.6) 31(3.981,2) 32(3.981,2.4) 33(3.981,2.8) 34(3.981,3.2) 52(-3.981,3.2) 53(-3.981,2.8) 54(-3.981,2.4) 55(-3.981,2) 56(-3.981,1.6) 57(-3.981,1.2) 58(-3.981,0.8) 59(-3.981,0.4) 60(-3.981,0) 61(-3.981,-0.4) 62(-3.981,-0.8) 63(-3.981,-1.2) 64(-3.981,-1.6) 65(-3.981,-2) 66(-3.981,-2.4) 67(-3.981,-2.8) 68(-3.981,-3.2)
  rect 1x1 smd: 69(0,0)
Top Layer:
  region: -2.25,2.25 2.25,2.25 2.25,-2.25 -1.75,-2.25 -2.25,-1.75
Top Overlay:
  circle w0.25: c-3.725,-4.525 r0.125
  lines w0.178: -4.1,-3.525 -4.1,-4.1 -3.525,-4.1 ; -4.1,3.525 -4.1,4.1 -3.525,4.1 ; 3.525,-4.1 4.1,-4.1 4.1,-3.525 ; 3.525,4.1 4.1,4.1 4.1,3.525
Mechanical 13:
  circle w0.1: c-3.2,-3.2 r0.4
  lines w0.1: -4,-4 4,-4 4,4.001 -4.001,4.001 -4,-4
Mechanical 15:
  circle w0.05: c0,0 r0.35
  lines w0.05: -0.5,0 0.5,0 ; 0,-0.5 0,0.5
  lines w0.1: -4.699,-4.699 4.699,-4.699 4.699,4.699 -4.699,4.699 -4.699,-4.699
3D body "QFN68 8x8.STEP": height 0.88, standoff 0, extent -4.001,-4.001 4.001,4.001